# Altium footprint library TSW-104-02-S-S-RA.PcbLib: 1 footprints
Each footprint in its own frame and in the unit in brackets; x right, y up, seen from the top. Pads: shape width x height; smd on the part's side, far side on the other; paste and mask are expansions set on the pad; w line width, h text height; cw(c..) or ccw(c..) is an arc to the next point about the centre after c.
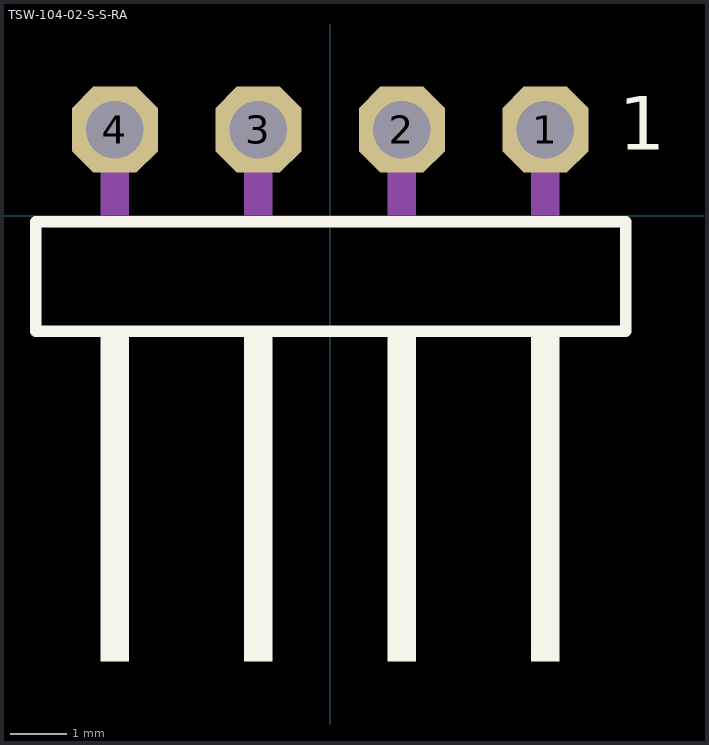
[diagram p0: the footprint, top view; thin cyan lines are the x and y axes]

## TSW-104-02-S-S-RA [mil]
pads (4):
  oct 60x60 hole 40: 1(150,60) 2(50,60) 3(-50,60) 4(-150,60)
Top Overlay:
  rectangle: -160,-310.63 -140,-80.31
  rectangle: -60,-310.63 -40,-80.31
  rectangle: 40,-310.63 60,-80.31
  rectangle: 140,-310.63 160,-80.31
  lines w8: -205.08,-80.55 206,-80.55 206,-4.17 -205.08,-4.17 -205.08,-80.55
  text "1" at 201,46 h37.4
Mechanical 16:
  rectangle: -160,0 -140,70
  rectangle: -60,0 -40,70
  rectangle: 40,0 60,70
  rectangle: 140,0 160,70